# Altium schematic symbol library 61300511121.SchLib: 1 symbol
Pins are listed as number, name and electrical type; pins without a type are passive.

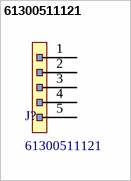
[diagram p0: symbol 61300511121]

## 61300511121
designator J?
CONN HEADER VERT 5POS 2.54MM; MFR: Würth Elektronik; Positions: 5; Rows: 1; Voltage Rating: 250V; Current Rating: 3A; Pin Count: 5; PN: 61300511121; ComponentLink1Description: Datasheet; ComponentLink1URL: https://katalog.we-online.de/em/datasheet/6130xx11121.pdf; Supplier 1: Digi-Key; Supplier Part Number 1: 732-5318-ND
footprint 61300511121
pins: 1, 2, 3, 4, 5